# Altium schematic symbol library Switcher.SchLib: 1 symbol
Pins are listed as number, name and electrical type; pins without a type are passive.

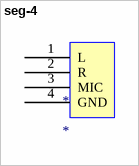
[diagram p0: symbol seg-4]

## seg-4
designator *
pins: 1 L, 2 R, 3 MIC, 4 GND